# Altium integrated library Capacitors_Tantalum.IntLib: 5 symbols
Pins are listed as number, name and electrical type; pins without a type are passive.

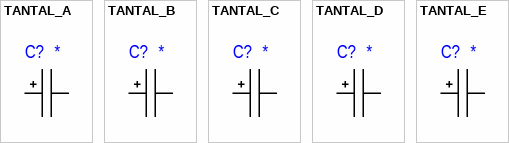
[diagram p0: symbols TANTAL_A to TANTAL_E]

## TANTAL_A
designator C?
Manufacturer: *; Note: *; PartNumber: *; Value: *
footprint TANTAL_A
pins: 1 (power), 2 (power)

## TANTAL_B
designator C?
Manufacturer: *; Note: *; PartNumber: *; Value: *
footprint TANTAL_B
pins: 1 (power), 2 (power)

## TANTAL_C
designator C?
Manufacturer: *; Note: *; PartNumber: *; Value: *
footprint TANTAL_C
pins: 1 (power), 2 (power)

## TANTAL_D
designator C?
Manufacturer: *; Note: *; PartNumber: *; Value: *
footprint TANTAL_D
pins: 1 (power), 2 (power)

## TANTAL_E
designator C?
Manufacturer: *; Note: *; PartNumber: *; Value: *
footprint TANTAL_E
pins: 1 (power), 2 (power)